# EAGLE library part CONVERTER-ETA1038 (library IC-new)
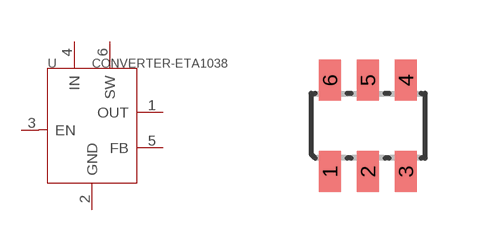
[diagram p0: symbol with the pads of SOT-23-6; footprint SOT-23-6]

Designator prefix U

## CONVERTER-ETA1038  [SOT-23-6]
1  OUT
2  GND
3  EN
4  IN
5  FB
6  SW

## Footprint SOT-23-6 (pad centres in mm)
smd 0.55 x 1.016: 1 -0.95,-1.143; 2 0,-1.143; 3 0.95,-1.143; 4 0.95,1.143; 5 0,1.143; 6 -0.95,1.143